# Altium footprint library JST SH Connectors.PcbLib: 29 footprints (part 2 of 2)
Each footprint in its own frame and in the unit in brackets; x right, y up, seen from the top. Pads: shape width x height; smd on the part's side, far side on the other; paste and mask are expansions set on the pad; w line width, h text height; cw(c..) or ccw(c..) is an arc to the next point about the centre after c.
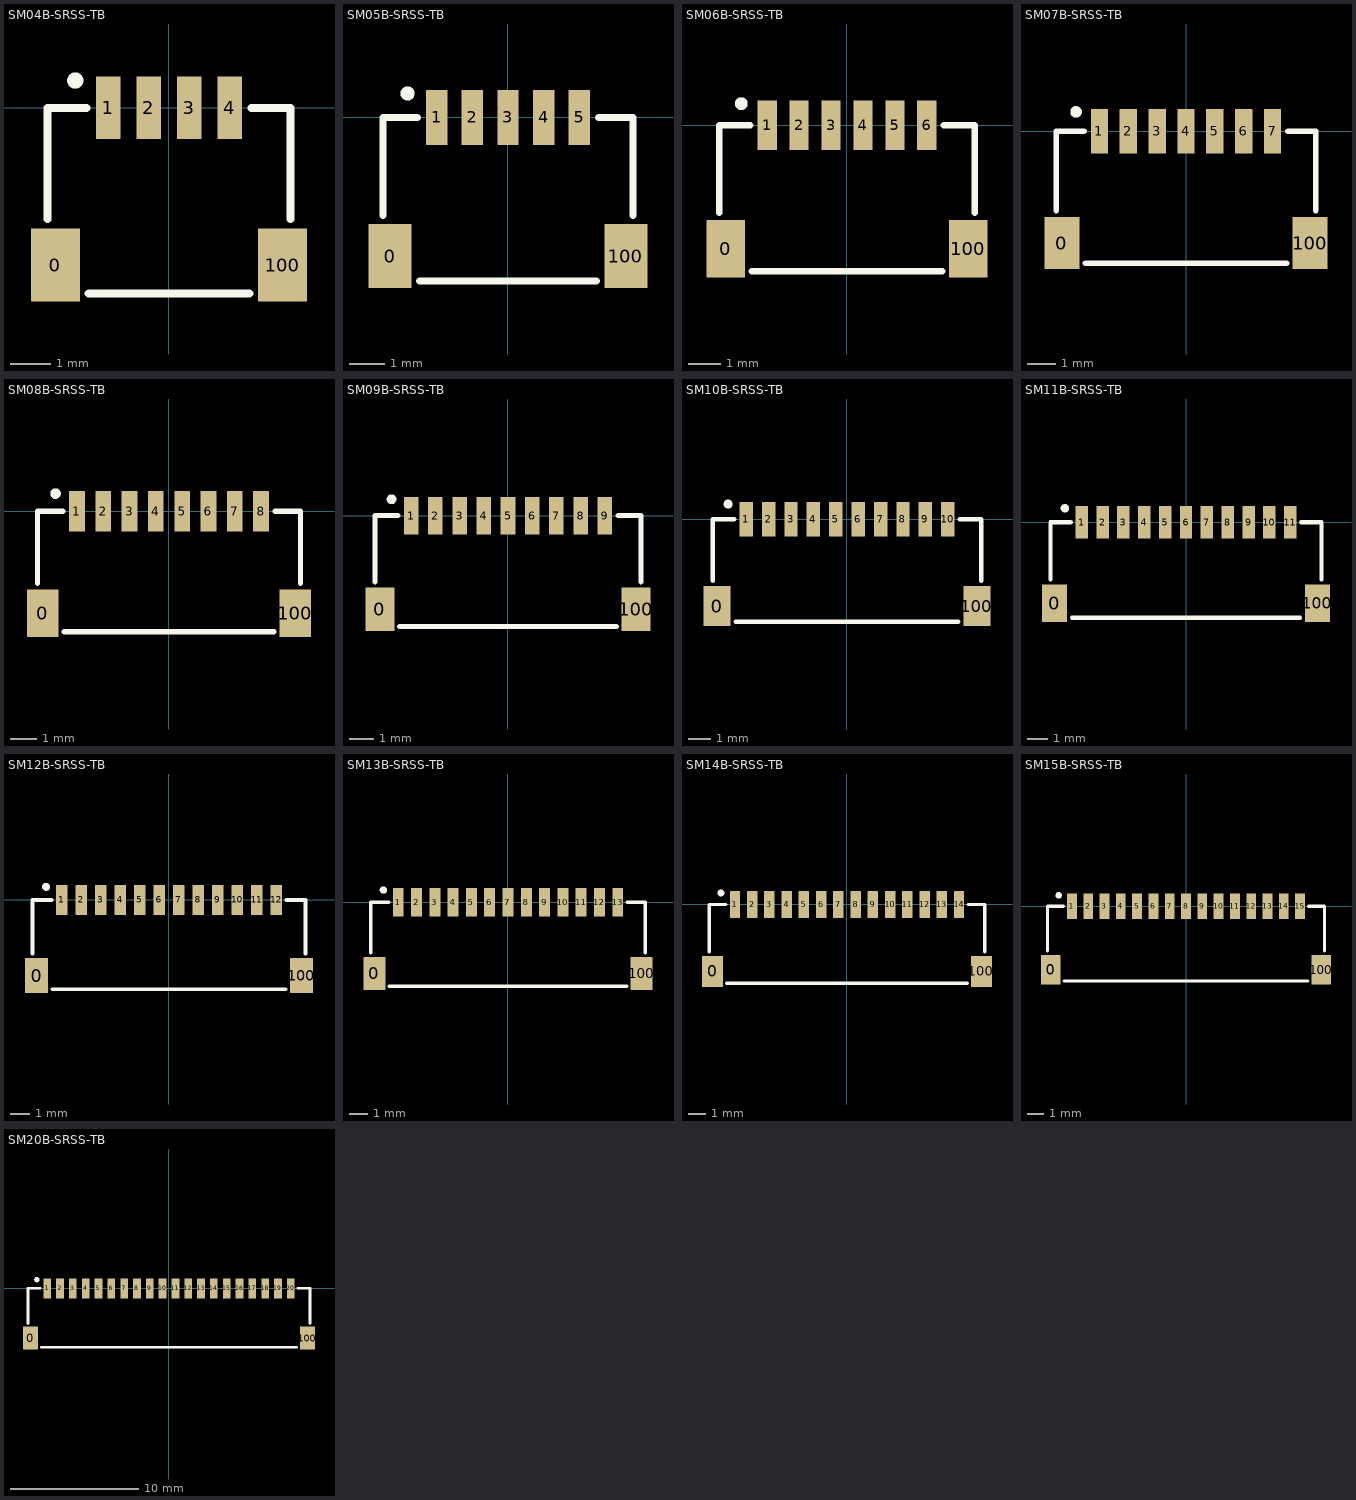
[diagram p1: the footprints below, top view; thin cyan lines are the x and y axes]

## SM04B-SRSS-TB [mm]
pads (6):
  rect 1.2x1.8 smd: 0(-2.8,-3.88) 100(2.8,-3.88)
  rect 0.6x1.55 smd: 1(-1.5,0) 2(-0.5,0) 3(0.5,0) 4(1.5,0)
Top Overlay:
  circle w0.2: c-2.313,0.672 r0.1
  lines w0.2: -3,-2.743 -3,0 -2.033,0 ; -1.98,-4.58 1.98,-4.58 ; 2.033,0 3,0 3,-2.743
3D body "SM04B-SRSS-TB.STEP": height 3.25, standoff 0.3, extent -3,-4.58 3,0.37

## SM05B-SRSS-TB [mm]
pads (7):
  rect 1.2x1.8 smd: 0(-3.3,-3.88) 100(3.3,-3.88)
  rect 0.6x1.55 smd: 1(-2,0) 2(-1,0) 3(0,0) 4(1,0) 5(2,0)
Top Overlay:
  circle w0.2: c-2.813,0.672 r0.1
  lines w0.2: -3.5,-2.743 -3.5,0 -2.533,0 ; -2.48,-4.58 2.48,-4.58 ; 2.533,0 3.5,0 3.5,-2.743
3D body "SM05B-SRSS-TB.STEP": height 3.25, standoff 0.3, extent -3.5,-4.58 3.5,0.37

## SM06B-SRSS-TB [mm]
pads (8):
  rect 1.2x1.8 smd: 0(-3.8,-3.88) 100(3.8,-3.88)
  rect 0.6x1.55 smd: 1(-2.5,0) 2(-1.5,0) 3(-0.5,0) 4(0.5,0) 5(1.5,0) 6(2.5,0)
Top Overlay:
  circle w0.2: c-3.313,0.672 r0.1
  lines w0.2: -4,-2.743 -4,0 -3.033,0 ; -2.98,-4.58 2.98,-4.58 ; 3.033,0 4,0 4,-2.743
3D body "SM06B-SRSS-TB.STEP": height 3.25, standoff 0.3, extent -4,-4.58 4,0.37

## SM07B-SRSS-TB [mm]
pads (9):
  rect 1.2x1.8 smd: 0(-4.3,-3.88) 100(4.3,-3.88)
  rect 0.6x1.55 smd: 1(-3,0) 2(-2,0) 3(-1,0) 4(0,0) 5(1,0) 6(2,0) 7(3,0)
Top Overlay:
  circle w0.2: c-3.813,0.672 r0.1
  lines w0.2: -4.5,-2.743 -4.5,0 -3.533,0 ; -3.48,-4.58 3.48,-4.58 ; 3.533,0 4.5,0 4.5,-2.743
3D body "SM07B-SRSS-TB.STEP": height 2.97, standoff 0.01, extent -4.5,-4.58 4.5,0.37

## SM08B-SRSS-TB [mm]
pads (10):
  rect 1.2x1.8 smd: 0(-4.8,-3.88) 100(4.8,-3.88)
  rect 0.6x1.55 smd: 1(-3.5,0) 2(-2.5,0) 3(-1.5,0) 4(-0.5,0) 5(0.5,0) 6(1.5,0) 7(2.5,0) 8(3.5,0)
Top Overlay:
  circle w0.2: c-4.313,0.672 r0.1
  lines w0.2: -5,-2.743 -5,0 -4.033,0 ; -3.98,-4.58 3.98,-4.58 ; 4.033,0 5,0 5,-2.743
3D body "SM08B-SRSS-TB.STEP": height 3.25, standoff 0.3, extent -5,-4.58 5,0.37

## SM09B-SRSS-TB [mm]
pads (11):
  rect 1.2x1.8 smd: 0(-5.3,-3.88) 100(5.3,-3.88)
  rect 0.6x1.55 smd: 1(-4,0) 2(-3,0) 3(-2,0) 4(-1,0) 5(0,0) 6(1,0) 7(2,0) 8(3,0) 9(4,0)
Top Overlay:
  circle w0.2: c-4.813,0.672 r0.1
  lines w0.2: -5.5,-2.743 -5.5,0 -4.533,0 ; -4.48,-4.58 4.48,-4.58 ; 4.533,0 5.5,0 5.5,-2.743
3D body "SM09B-SRSS-TB.STEP": height 3.25, standoff 0.3, extent -5.5,-4.58 5.5,0.37

## SM10B-SRSS-TB [mm]
pads (12):
  rect 1.2x1.8 smd: 0(-5.8,-3.88) 100(5.8,-3.88)
  rect 0.6x1.55 smd: 1(-4.5,0) 2(-3.5,0) 3(-2.5,0) 4(-1.5,0) 5(-0.5,0) 6(0.5,0) 7(1.5,0) 8(2.5,0) 9(3.5,0) 10(4.5,0)
Top Overlay:
  circle w0.2: c-5.313,0.672 r0.1
  lines w0.2: -6,-2.743 -6,0 -5.033,0 ; -4.98,-4.58 4.98,-4.58 ; 5.033,0 6,0 6,-2.743
3D body "SM10B-SRSS-TB.STEP": height 3.25, standoff 0.3, extent -6,-4.58 6,0.37

## SM11B-SRSS-TB [mm]
pads (13):
  rect 1.2x1.8 smd: 0(-6.3,-3.88) 100(6.3,-3.88)
  rect 0.6x1.55 smd: 1(-5,0) 2(-4,0) 3(-3,0) 4(-2,0) 5(-1,0) 6(0,0) 7(1,0) 8(2,0) 9(3,0) 10(4,0) 11(5,0)
Top Overlay:
  circle w0.2: c-5.813,0.672 r0.1
  lines w0.2: -6.5,-2.743 -6.5,0 -5.533,0 ; -5.48,-4.58 5.48,-4.58 ; 5.533,0 6.5,0 6.5,-2.743
3D body "SM11B-SRSS-TB.STEP": height 3.25, standoff 0.3, extent -6.5,-4.58 6.5,0.37

## SM12B-SRSS-TB [mm]
pads (14):
  rect 1.2x1.8 smd: 0(-6.8,-3.88) 100(6.8,-3.88)
  rect 0.6x1.55 smd: 1(-5.5,0) 2(-4.5,0) 3(-3.5,0) 4(-2.5,0) 5(-1.5,0) 6(-0.5,0) 7(0.5,0) 8(1.5,0) 9(2.5,0) 10(3.5,0) 11(4.5,0) 12(5.5,0)
Top Overlay:
  circle w0.2: c-6.313,0.672 r0.1
  lines w0.2: -7,-2.743 -7,0 -6.033,0 ; -5.98,-4.58 5.98,-4.58 ; 6.033,0 7,0 7,-2.743
3D body "SM12B-SRSS-TB.STEP": height 3.25, standoff 0.3, extent -7,-4.58 7,0.37

## SM13B-SRSS-TB [mm]
pads (15):
  rect 1.2x1.8 smd: 0(-7.3,-3.88) 100(7.3,-3.88)
  rect 0.6x1.55 smd: 1(-6,0) 2(-5,0) 3(-4,0) 4(-3,0) 5(-2,0) 6(-1,0) 7(0,0) 8(1,0) 9(2,0) 10(3,0) 11(4,0) 12(5,0) 13(6,0)
Top Overlay:
  circle w0.2: c-6.813,0.672 r0.1
  lines w0.2: -7.5,-2.743 -7.5,0 -6.533,0 ; -6.48,-4.58 6.48,-4.58 ; 6.533,0 7.5,0 7.5,-2.743
3D body "SM13B-SRSS-TB.STEP": height 3.25, standoff 0.3, extent -7.5,-4.58 7.5,0.37

## SM14B-SRSS-TB [mm]
pads (16):
  rect 1.2x1.8 smd: 0(-7.8,-3.88) 100(7.8,-3.88)
  rect 0.6x1.55 smd: 1(-6.5,0) 2(-5.5,0) 3(-4.5,0) 4(-3.5,0) 5(-2.5,0) 6(-1.5,0) 7(-0.5,0) 8(0.5,0) 9(1.5,0) 10(2.5,0) 11(3.5,0) 12(4.5,0) 13(5.5,0) 14(6.5,0)
Top Overlay:
  circle w0.2: c-7.313,0.672 r0.1
  lines w0.2: -8,-2.743 -8,0 -7.033,0 ; -6.98,-4.58 6.98,-4.58 ; 7.033,0 8,0 8,-2.743
3D body "SM14B-SRSS-TB.STEP": height 3.25, standoff 0.3, extent -8,-4.58 8,0.37

## SM15B-SRSS-TB [mm]
pads (17):
  rect 1.2x1.8 smd: 0(-8.3,-3.88) 100(8.3,-3.88)
  rect 0.6x1.55 smd: 1(-7,0) 2(-6,0) 3(-5,0) 4(-4,0) 5(-3,0) 6(-2,0) 7(-1,0) 8(0,0) 9(1,0) 10(2,0) 11(3,0) 12(4,0) 13(5,0) 14(6,0) 15(7,0)
Top Overlay:
  circle w0.2: c-7.813,0.672 r0.1
  lines w0.2: -8.5,-2.743 -8.5,0 -7.533,0 ; -7.48,-4.58 7.48,-4.58 ; 7.533,0 8.5,0 8.5,-2.743
3D body "SM15B-SRSS-TB.STEP": height 3.25, standoff 0.3, extent -8.5,-4.58 8.5,0.37

## SM20B-SRSS-TB [mm]
pads (22):
  rect 1.2x1.8 smd: 0(-10.8,-3.88) 100(10.8,-3.88)
  rect 0.6x1.55 smd: 1(-9.5,0) 2(-8.5,0) 3(-7.5,0) 4(-6.5,0) 5(-5.5,0) 6(-4.5,0) 7(-3.5,0) 8(-2.5,0) 9(-1.5,0) 10(-0.5,0) 11(0.5,0) 12(1.5,0) 13(2.5,0) 14(3.5,0) 15(4.5,0) 16(5.5,0) 17(6.5,0) 18(7.5,0) 19(8.5,0) 20(9.5,0)
Top Overlay:
  circle w0.2: c-10.313,0.672 r0.1
  lines w0.2: -11,-2.743 -11,0 -10.033,0 ; -9.98,-4.58 9.98,-4.58 ; 10.033,0 11,0 11,-2.743
3D body "SM20B-SRSS-TB.STEP": height 3.25, standoff 0.3, extent -11,-4.58 11,0.37